# Altium footprint library 1S_Charger.PcbLib: 1 footprints
Each footprint in its own frame and in the unit in brackets; x right, y up, seen from the top. Pads: shape width x height; smd on the part's side, far side on the other; paste and mask are expansions set on the pad; w line width, h text height; cw(c..) or ccw(c..) is an arc to the next point about the centre after c.
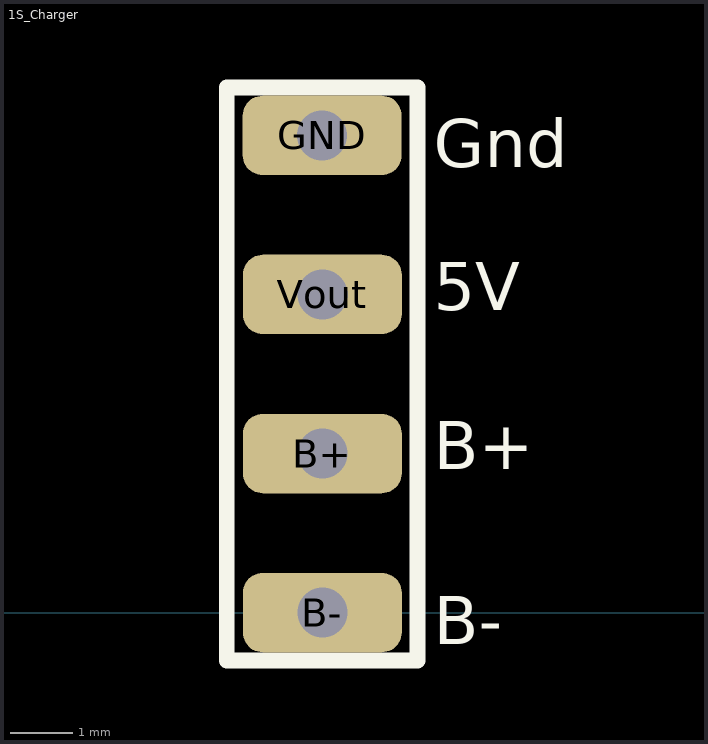
[diagram p0: the footprint, top view; thin cyan lines are the x and y axes]

## 1S_Charger [mm]
pads (4):
  rrect50% 2.54x1.27 hole 0.8: B+(-16,2.54) B-(-16,0) GND(-16.002,7.62) Vout(-16,5.08)
Top Overlay:
  lines w0.254: -17.526,-0.762 -14.478,-0.762 -14.478,8.382 -17.526,8.382 -17.526,-0.762
  text "B-" at -14.224,-0.508 h0.76
  text "B+" at -14.224,2.286 h0.76
  text "Gnd" at -14.224,7.112 h0.76
  text "5V" at -14.224,4.826 h0.76